# EAGLE library part 9021_PHY (library icnh3)
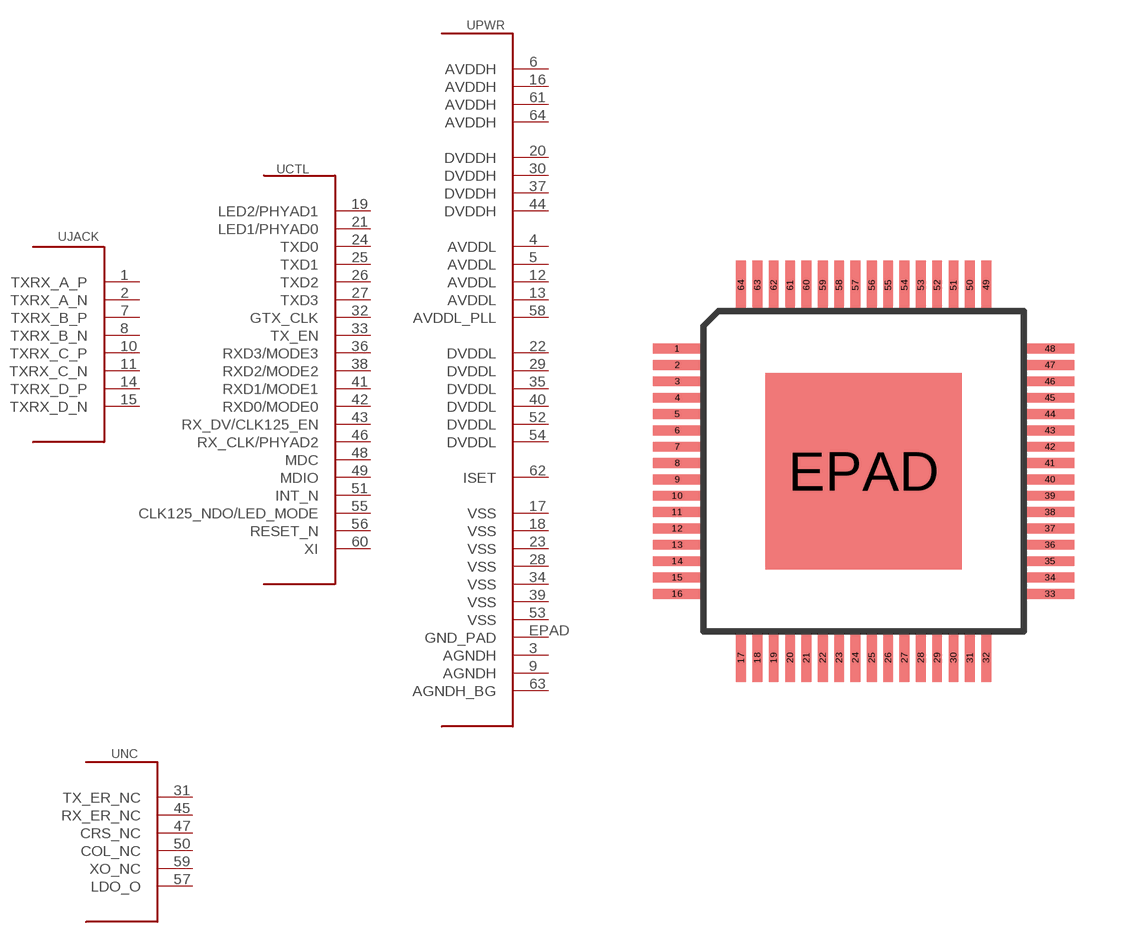
[diagram p12: symbol with the pads of TQFP_EPAD_64; footprint TQFP_EPAD_64]

Designator prefix U; gates JACK=9021_PHY_CABLE CTL=9021_PHY_IFACE PWR=9021_PHY_PWR NC=9021_PHY_NC

## 9021_PHY  [TQFP_EPAD_64]
1  JACK:TXRX_A_P
2  JACK:TXRX_A_N
3  PWR:AGNDH  pwr
4  PWR:AVDDL  pwr
5  PWR:AVDDL  pwr
6  PWR:AVDDH  pwr
7  JACK:TXRX_B_P
8  JACK:TXRX_B_N
9  PWR:AGNDH  pwr
10  JACK:TXRX_C_P
11  JACK:TXRX_C_N
12  PWR:AVDDL  pwr
13  PWR:AVDDL  pwr
14  JACK:TXRX_D_P
15  JACK:TXRX_D_N
16  PWR:AVDDH  pwr
17  PWR:VSS  pwr
18  PWR:VSS  pwr
19  CTL:LED2/PHYAD1
20  PWR:DVDDH  pwr
21  CTL:LED1/PHYAD0
22  PWR:DVDDL  pwr
23  PWR:VSS  pwr
24  CTL:TXD0
25  CTL:TXD1
26  CTL:TXD2
27  CTL:TXD3
28  PWR:VSS  pwr
29  PWR:DVDDL  pwr
30  PWR:DVDDH  pwr
31  NC:TX_ER_NC
32  CTL:GTX_CLK
33  CTL:TX_EN
34  PWR:VSS  pwr
35  PWR:DVDDL  pwr
36  CTL:RXD3/MODE3
37  PWR:DVDDH  pwr
38  CTL:RXD2/MODE2
39  PWR:VSS  pwr
40  PWR:DVDDL  pwr
41  CTL:RXD1/MODE1
42  CTL:RXD0/MODE0
43  CTL:RX_DV/CLK125_EN
44  PWR:DVDDH  pwr
45  NC:RX_ER_NC
46  CTL:RX_CLK/PHYAD2
47  NC:CRS_NC
48  CTL:MDC
49  CTL:MDIO
50  NC:COL_NC
51  CTL:INT_N
52  PWR:DVDDL  pwr
53  PWR:VSS  pwr
54  PWR:DVDDL  pwr
55  CTL:CLK125_NDO/LED_MODE
56  CTL:RESET_N
57  NC:LDO_O
58  PWR:AVDDL_PLL  pwr
59  NC:XO_NC
60  CTL:XI
61  PWR:AVDDH  pwr
62  PWR:ISET
63  PWR:AGNDH_BG  pwr
64  PWR:AVDDH  pwr
EPAD  PWR:GND_PAD  pwr

## Footprint TQFP_EPAD_64 (pad centres in mm)
smd 1.5 x 0.3: 1 -5.7,3.75; 2 -5.7,3.25; 3 -5.7,2.75; 4 -5.7,2.25; 5 -5.7,1.75; 6 -5.7,1.25; 7 -5.7,0.75; 8 -5.7,0.25; 9 -5.7,-0.25; 10 -5.7,-0.75; 11 -5.7,-1.25; 12 -5.7,-1.75; 13 -5.7,-2.25; 14 -5.7,-2.75; 15 -5.7,-3.25; 16 -5.7,-3.75; 33 5.7,-3.75; 34 5.7,-3.25; 35 5.7,-2.75; 36 5.7,-2.25; 37 5.7,-1.75; 38 5.7,-1.25; 39 5.7,-0.75; 40 5.7,-0.25; 41 5.7,0.25; 42 5.7,0.75; 43 5.7,1.25; 44 5.7,1.75; 45 5.7,2.25; 46 5.7,2.75; 47 5.7,3.25; 48 5.7,3.75
smd 0.3 x 1.5: 17 -3.75,-5.7; 18 -3.25,-5.7; 19 -2.75,-5.7; 20 -2.25,-5.7; 21 -1.75,-5.7; 22 -1.25,-5.7; 23 -0.75,-5.7; 24 -0.25,-5.7; 25 0.25,-5.7; 26 0.75,-5.7; 27 1.25,-5.7; 28 1.75,-5.7; 29 2.25,-5.7; 30 2.75,-5.7; 31 3.25,-5.7; 32 3.75,-5.7; 49 3.75,5.7; 50 3.25,5.7; 51 2.75,5.7; 52 2.25,5.7; 53 1.75,5.7; 54 1.25,5.7; 55 0.75,5.7; 56 0.25,5.7; 57 -0.25,5.7; 58 -0.75,5.7; 59 -1.25,5.7; 60 -1.75,5.7; 61 -2.25,5.7; 62 -2.75,5.7; 63 -3.25,5.7; 64 -3.75,5.7
smd 6 x 6: EPAD 0,0